# Altium footprint library 天线.PcbLib: 5 footprints
Each footprint in its own frame and in the unit in brackets; x right, y up, seen from the top. Pads: shape width x height; smd on the part's side, far side on the other; paste and mask are expansions set on the pad; w line width, h text height; cw(c..) or ccw(c..) is an arc to the next point about the centre after c.
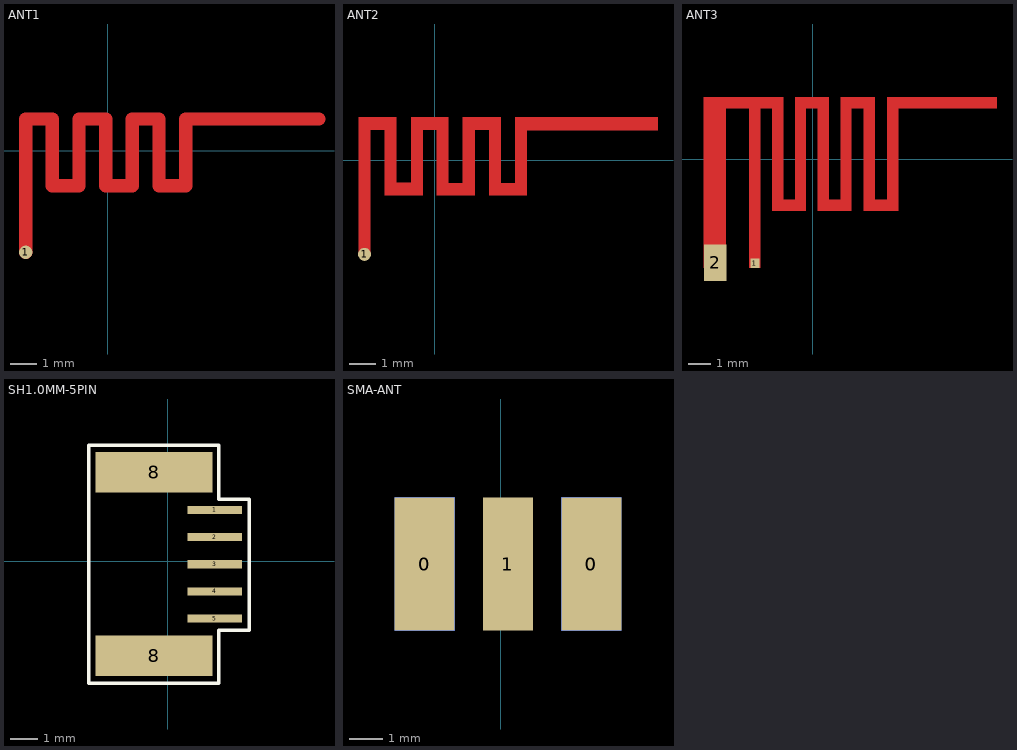
[diagram p0: the footprints below, top view; thin cyan lines are the x and y axes]

## ANT1 [mm]
pads (1):
  round 0.5 smd: 1(-3.073,-3.81)
Top Layer:
  lines w0.5: -3.073,-3.81 -3.073,1.19 -2.073,1.19 -2.073,-1.31 -1.073,-1.31 -1.073,1.15 ; -1.073,1.19 -0.073,1.19 -0.073,-1.31 0.927,-1.31 0.927,1.18 ; 0.927,1.19 1.927,1.19 1.927,-1.31 2.927,-1.31 2.927,1.19 7.927,1.19

## ANT2 [mm]
pads (1):
  round 0.5 smd: 1(-2.692,-3.607)
Top Layer:
  rectangle: 3.073,1.143 8.56,1.651
  rectangle: 2.083,-1.346 3.505,-0.864
  rectangle: 1.092,1.168 2.515,1.651
  rectangle: 0.076,-1.346 1.499,-0.864
  rectangle: -0.914,1.168 0.533,1.651
  rectangle: 3.073,-1.346 3.531,1.651
  rectangle: 2.083,-1.346 2.54,1.651
  rectangle: 1.067,-1.346 1.549,1.651
  rectangle: 0.076,-1.346 0.533,1.651
  rectangle: -0.914,-1.346 -0.457,1.647
  rectangle: -1.93,-1.346 -0.457,-0.86
  rectangle: -1.93,-1.346 -1.473,1.651
  rectangle: -2.921,1.168 -1.499,1.651
  rectangle: -2.921,-3.607 -2.464,1.651

## ANT3 [mm]
pads (2):
  rect 0.4x0.4 smd: 1(-2.536,-4.571)
  rect 1x1.6 smd: 2(-4.279,-4.551)
Top Layer:
  rectangle: 0.214,-2.271 1.714,-1.771
  rectangle: -0.786,2.229 0.714,2.729
  rectangle: 3.295,2.229 8.095,2.729
  rectangle: -1.786,-2.274 -1.286,2.726
  rectangle: -2.796,-4.771 -2.296,2.386
  rectangle: -4.796,-4.771 -3.796,2.729
  rectangle: -0.786,-2.274 -0.286,2.726
  rectangle: -4.786,2.229 -1.286,2.729
  rectangle: 0.214,-2.274 0.714,2.726
  rectangle: -1.786,-2.271 -0.286,-1.771
  rectangle: 1.214,-2.274 1.714,2.726
  rectangle: 1.239,2.229 2.739,2.729
  rectangle: 2.239,-2.274 2.739,2.726
  rectangle: 2.264,-2.271 3.764,-1.764
  rectangle: 3.267,-2.271 3.767,2.729

## SH1.0MM-5PIN [mm]
pads (7):
  rect 2x0.3 smd: 1(1.735,1.889) 2(1.735,0.889) 3(1.735,-0.111) 4(1.735,-1.111) 5(1.735,-2.111)
  rect 4.3x1.5 smd: 8(-0.508,-3.48) 8(-0.508,3.277)
Top Overlay:
  lines w0.127: -2.921,-4.496 -2.921,4.267 1.885,4.267 1.885,2.289 3.01,2.289 3.01,-2.54 1.885,-2.54 1.885,-4.496 -2.921,-4.496

## SMA-ANT [mm]
pads (5):
  rect 1.8x4 smd: 0(-2.286,-11.201) 0(2.714,-11.201)
  rect 1.8x4 smd far side: 0(-2.286,-11.201) 0(2.714,-11.201)
  rect 1.5x4 smd: 1(0.214,-11.201)
3D body: height 8.11, standoff 2.06, extent -2.786,-13.001 3.214,0.599
3D body: height 87, standoff 0, extent -4.786,-4.701 5.214,26.199